# Altium integrated library SYR837PKC.IntLib: 1 symbol
Pins are listed as number, name and electrical type; pins without a type are passive.

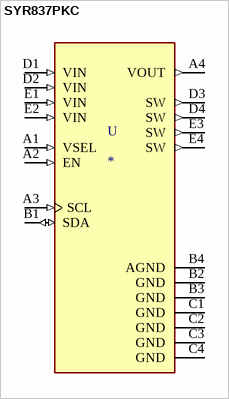
[diagram p0: symbol SYR837PKC]

## SYR837PKC
designator U
SYR837/SYR838 is a high efficiency 2.4MHz synchronous step down DC/DC regulator IC capable of delivering up to 6A output currents.; MF: Silergy; MP: SYR837PKC; SnapEDA_Link: https://www.snapeda.com/parts/SYR837PKC/Silergy/view-part/2756982/?ref=snap; Value: *; Package: None; Price: None; Availability: Unavailable
footprint BGA20N40P5X4_196X156X66N
pins: A1 VSEL (in), A2 EN (in), A3 SCL (in), A4 VOUT (out), B1 SDA (io), B2 GND (power), B3 GND (power), B4 AGND (power), C1 GND (power), C2 GND (power), C3 GND (power), C4 GND (power), D1 VIN (in), D2 VIN (in), D3 SW (out), D4 SW (out), E1 VIN (in), E2 VIN (in), E3 SW (out), E4 SW (out)